# Altium footprint library PcbLib1.PcbLib: 21 footprints (part 2 of 2)
Each footprint in its own frame and in the unit in brackets; x right, y up, seen from the top. Pads: shape width x height; smd on the part's side, far side on the other; paste and mask are expansions set on the pad; w line width, h text height; cw(c..) or ccw(c..) is an arc to the next point about the centre after c.
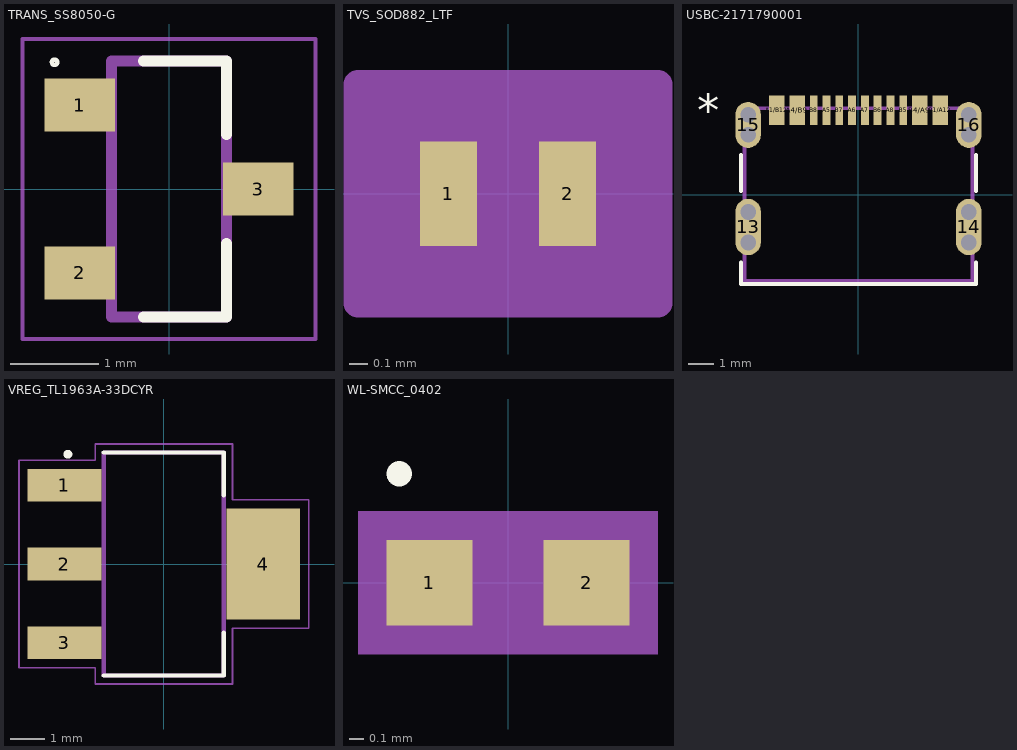
[diagram p1: the footprints below, top view; thin cyan lines are the x and y axes]

## TRANS_SS8050-G [mm]
height 1.05
pads (3):
  rect 0.8x0.6 smd: 1(-1.01,0.95) 2(-1.01,-0.95) 3(1.01,0)
Top Overlay:
  circle w0.05: c-1.297,1.437 r0.03
  lines w0.127: -0.29,-1.45 0.65,-1.45 0.65,-0.62 ; -0.29,1.45 0.65,1.45 0.65,0.62
Mechanical 13:
  lines w0.127: -0.65,-1.45 -0.65,1.45 0.65,1.45 0.65,-1.45 -0.65,-1.45
Mechanical 15:
  lines w0.05: -1.66,-1.7 1.66,-1.7 1.66,1.7 -1.66,1.7 -1.66,-1.7
3D body "SS8050-G--3DModel-STEP-1.STEP": height 1.14, standoff 0, extent -1.205,-1.437 1.195,1.459

## TVS_SOD882_LTF [mil]
pads (2):
  rect 12x22 smd paste+0 mask+0: 1(-12.5,0) 2(12.5,0)
Mechanical 13:
  circle w1: c-6.5,0 r3
  lines w1: -12,13 ccw(c0,13) 12,13 ; -21.5,-13 21.5,-13 21.5,13 -21.5,13 -21.5,-13
Mechanical 15:
  region: -31.5,-21 -31.5,21 -31.5,23 31.5,23 31.5,21 31.5,-21 31.5,-23 -31.5,-23
  lines w6: -31.5,-23 -31.5,-21 -31.5,21 -31.5,23 31.5,23 31.5,21 31.5,-21 31.5,-23 -31.5,-23
3D body "RTVS_SOD882_LTF.step": height 22.09, standoff 0, extent -21.5,-12.99 21.5,12.99

## USBC-2171790001 [mil]
pads (24):
  oval 39x87 smd paste+0 mask+4.02: 13(-170.08,-50.07) 14(170.08,-50.07)
  oval 39x71 smd paste+0 mask+4.02: 15(-170.08,107.41) 16(170.08,107.41)
  rect 24x45 smd paste+0 mask+4.02: A1/B12(-125.98,130.05) A4/B9(-94.49,130.05) B1/A12(125.98,130.05) B4/A9(94.49,130.05)
  rect 12x45 smd paste+0 mask+4.02: A5(-49.21,130.05) A6(-9.84,130.05) A7(9.84,130.05) A8(49.21,130.05) B5(68.9,130.05) B6(29.53,130.05) B7(-29.53,130.05) B8(-68.9,130.05)
  round 24 hole 24 unplated mask+0: ""(-170,-74) ""(-170,-27) ""(-170,92) ""(-170,123) ""(170,-74) ""(170,-27) ""(170,92) ""(170,123)
Top Overlay:
  lines w6: -181,-105 -181,-138 181,-138 181,-105 ; -181,5 -181,61 ; 181,5 181,61
  text "*" at -249,105 h50
Mechanical 1:
  lines w24: -170,-74 -170,-27 ; -170,92 -170,123 ; 170,-74 170,-27 ; 170,92 170,123
Mechanical 13:
  lines w6: -176,-133 176,-133 176,133 -176,133 -176,-133
3D body "2171790001.stp": height 126.89, standoff -33, extent -175.98,-137.88 175.99,127.88

## VREG_TL1963A-33DCYR [mm]
height 1.8
pads (4):
  rect 2.15x0.95 smd: 1(-2.9,2.3) 2(-2.9,0) 3(-2.9,-2.3)
  rect 2.15x3.25 smd: 4(2.9,0)
Top Overlay:
  circle w0.2: c-2.8,3.2 r0.03
  lines w0.127: -1.75,-3.25 1.75,-3.25 1.75,-2.01 ; -1.75,3.25 1.75,3.25 1.75,2.01
Mechanical 13:
  lines w0.127: -1.75,-3.25 1.75,-3.25 1.75,3.25 -1.75,3.25 -1.75,-3.25
Mechanical 15:
  lines w0.05: -4.225,-3.025 -2,-3.025 -2,-3.5 2,-3.5 2,-1.875 4.225,-1.875 4.225,1.875 2,1.875 2,3.5 -2,3.5 -2,3.025 -4.225,3.025 -4.225,-3.025
3D body "step_temp.STEP": height 1.8, standoff 0, extent -3.499,-3.25 3.499,3.25

## WL-SMCC_0402 [mm]
pads (2):
  rect 0.6x0.6 smd: 1(-0.55,0) 2(0.55,0)
Top Overlay:
  circle w0.178: c-0.762,0.762 r0
Mechanical 13:
  lines w0.1: -0.5,-0.25 -0.5,0.25 0.5,0.25 0.5,-0.25 -0.5,-0.25
Mechanical 15:
  region: 1.05,-0.5 -1.05,-0.5 -1.05,0.5 1.05,0.5
3D body "step_temp.STEP": height 0.25, standoff 0, extent -0.5,-0.25 0.5,0.25